# EAGLE library part ESP32-DEVKIT-V1 (library me)
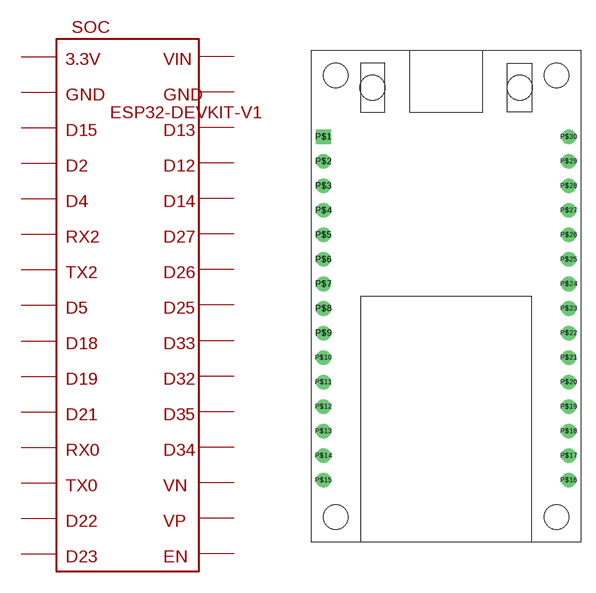
[diagram p17: symbol with the pads of ESP32-DEVKIT-V1; footprint ESP32-DEVKIT-V1]

Designator prefix SOC

## ESP32-DEVKIT-V1  [ESP32-DEVKIT-V1]
P$1  P$1
P$2  P$2
P$3  P$3
P$4  P$4
P$5  P$5
P$6  P$6
P$7  P$7
P$8  P$8
P$9  P$9
P$10  P$10
P$11  P$11
P$12  P$12
P$13  P$13
P$14  P$14
P$15  P$15
P$16  P$16
P$17  P$17
P$18  P$18
P$19  P$19
P$20  P$20
P$21  P$21
P$22  P$22
P$23  P$23
P$24  P$24
P$25  P$25
P$26  P$26
P$27  P$27
P$28  P$28
P$29  P$29
P$30  P$30

## Footprint ESP32-DEVKIT-V1 (pad centres in mm)
drill 1 square: P$1 -12.7,17.78
drill 1: P$2 -12.7,15.24; P$3 -12.7,12.7; P$4 -12.7,10.16; P$5 -12.7,7.62; P$6 -12.7,5.08; P$7 -12.7,2.54; P$8 -12.7,0; P$9 -12.7,-2.54; P$10 -12.7,-5.08; P$11 -12.7,-7.62; P$12 -12.7,-10.16; P$13 -12.7,-12.7; P$14 -12.7,-15.24; P$15 -12.7,-17.78; P$16 12.7,-17.78; P$17 12.7,-15.24; P$18 12.7,-12.7; P$19 12.7,-10.16; P$20 12.7,-7.62; P$21 12.7,-5.08; P$22 12.7,-2.54; P$23 12.7,0; P$24 12.7,2.54; P$25 12.7,5.08; P$26 12.7,7.62; P$27 12.7,10.16; P$28 12.7,12.7; P$29 12.7,15.24; P$30 12.7,17.78